# EAGLE library part CAT3626HV4-GT2 (library SamacSys_Parts)
CAT3626HV4-GT2, LED Display Driver 6-Segments, 3 5.5 V, 16-Pin TQFN Source: Datasheet <http://docs-emea.rs-online.com/webdocs/1270/0900766b812703cd.pdf>
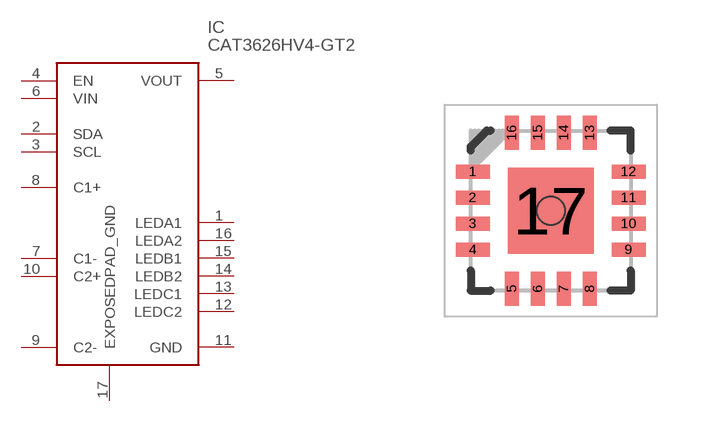
[diagram p1: symbol with the pads of QFN65P400X400X80-17N; footprint QFN65P400X400X80-17N]

Designator prefix IC

## CAT3626HV4-GT2 (ARROW_PART_NUMBER: CAT3626HV4-GT2; ARROW_PRICE-STOCK: https://www.arrow.com/en/products/cat3626hv4-gt2/on-semiconductor; DESCRIPTION: CAT3626HV4-GT2, LED Display Driver 6-Segments, 3 5.5 V, 16-Pin TQFN; HEIGHT: 0.8mm; MANUFACTURER_NAME: ON Semiconductor; MANUFACTURER_PART_NUMBER: CAT3626HV4-GT2; MOUSER_PART_NUMBER: 863-CAT3626HV4-GT2; MOUSER_PRICE-STOCK: https://www.mouser.co.uk/ProductDetail/ON-Semiconductor/CAT3626HV4-GT2?qs=qq0d0g5Qxs1l5TR2q6L9hA%3D%3D)  [QFN65P400X400X80-17N]
1  LEDA1
2  SDA
3  SCL
4  EN
5  VOUT  out
6  VIN  in
7  C1-
8  C1+
9  C2-
10  C2+
11  GND  pwr
12  LEDC2
13  LEDC1
14  LEDB2
15  LEDB1
16  LEDA2
17  EXPOSEDPAD_GND  pwr

## Footprint QFN65P400X400X80-17N (pad centres in mm)
TQFN16 4X4 CASE510AE
smd 0.85 x 0.35: 1 -1.95,0.975; 2 -1.95,0.325; 3 -1.95,-0.325; 4 -1.95,-0.975; 9 1.95,-0.975; 10 1.95,-0.325; 11 1.95,0.325; 12 1.95,0.975
smd 0.35 x 0.85: 5 -0.975,-1.95; 6 -0.325,-1.95; 7 0.325,-1.95; 8 0.975,-1.95; 13 0.975,1.95; 14 0.325,1.95; 15 -0.325,1.95; 16 -0.975,1.95
smd 2.15 x 2.15: 17 0,0